# Altium schematic symbol library ESDA17P20-1F2.SchLib: 1 symbol
Pins are listed as number, name and electrical type; pins without a type are passive.

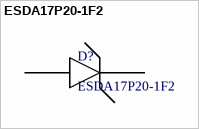
[diagram p0: symbol ESDA17P20-1F2]

## ESDA17P20-1F2
designator D?
footprint ESDA17P20-1F2
pins: 18 A, 19 K